# Altium schematic symbol library WIFISocket.SCHLIB: 16 symbols
Pins are listed as number, name and electrical type; pins without a type are passive.

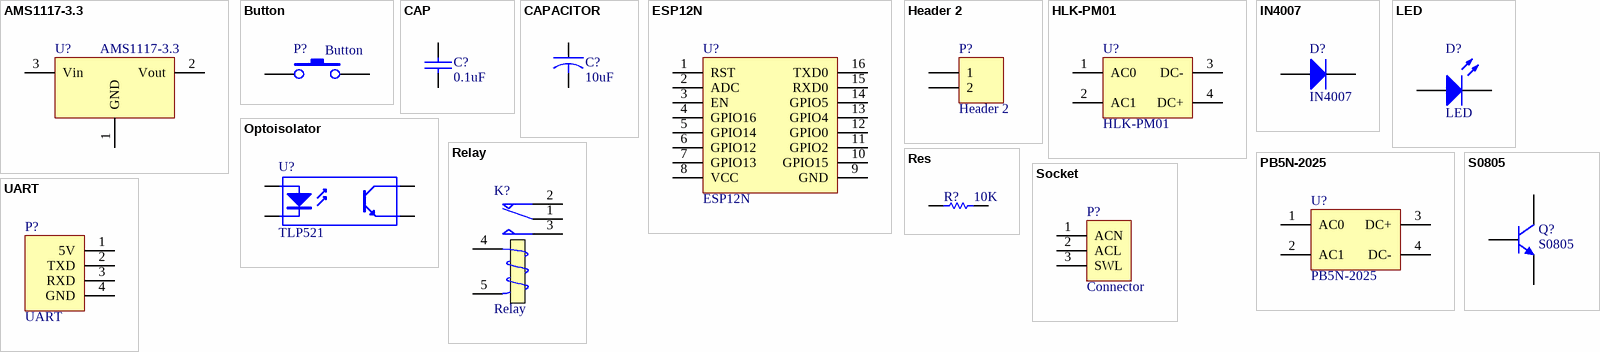
[diagram p0: symbols AMS1117-3.3 to UART]

## AMS1117-3.3
designator U?
5V转3V
footprint SOT223
pins: 1 GND, 2 Vout, 3 Vin

## Button
designator P?
按键
footprint BUTTON ([CHECK][9/6][PIN])
pins: 1, 2

## CAP
designator C?, comment 0.1uF
Capacitor
footprint 0603A
pins: 1, 2

## CAPACITOR
designator C?, comment 10uF
Capacitor
footprint 0603A
pins: 1, 2

## ESP12N
designator U?
ESP12N无线模块
footprint ESP_12
pins: 1 RST, 2 ADC, 3 EN, 4 GPIO16, 5 GPIO14, 6 GPIO12, 7 GPIO13, 8 VCC, 9 GND, 10 GPIO15, 11 GPIO2, 12 GPIO0, 13 GPIO4, 14 GPIO5, 15 RXD0, 16 TXD0

## Header 2
designator P?
Header, 2-Pin
footprint HDR1X2 (Connector; Header; 2 Position)
pins: 1, 2

## HLK-PM01
designator U?
220V AC转5V DC模块
footprint HLK_PM01 ([CHECK])
pins: 1 AC0, 2 AC1, 3 DC-, 4 DC+

## IN4007
designator D?
整流二极管
footprint 1N4007
pins: 1 A, 2 K

## LED
designator D?
footprint LED
pins: 1 A, 2 K

## Optoisolator
designator U?, comment TLP521
光耦
footprint DIP-4 (DIP; 4 Leads; Row Spacing 7.62 mm; Pitch 2.54 mm)
pins: 1 A "Anode", 2 K "Cathode", 3 E "Emitter", 4 C "Collector"

## PB5N-2025
designator U?
220V AC转5V DC模块
pins: 1 AC0, 2 AC1, 3 DC+, 4 DC-

## Relay
designator K?
SPDT Relay
footprint Relay
pins: 1 COM, 2 NC, 3 NO, 4 T1, 5 T2

## Res
designator R?  value 10K  (hidden comment: Res)
Resistor
footprint 0603R
pins: 1, 2

## S0805
designator Q?
NPN
footprint SOT23
pins: B, C, E

## Socket
designator P?, comment Connector
220V插座焊盘
footprint Connector
pins: 1 ACN, 2 ACL, 3 SWL

## UART
designator P?
UART下载接口
footprint HDR1X4 (Connector; Header; 4 Position)
pins: 1 5V, 2 TXD, 3 RXD, 4 GND